# Altium schematic symbol library TLV493DA1B6HTSA2.Schlib: 1 symbol
Pins are listed as number, name and electrical type; pins without a type are passive.

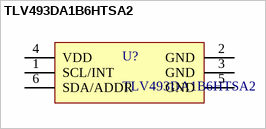
[diagram p0: symbol TLV493DA1B6HTSA2]

## TLV493DA1B6HTSA2
designator U?
Hall Effect Sensor Linear, Rotary Position External Magnet, Not Included SMD (SMT) Tab
pins: 1 SCL/INT, 2 GND, 3 GND, 4 VDD, 5 GND, 6 SDA/ADDR